# EAGLE library part 1-292227-2 (library te)
1.5mm AMP Mini CT Connectors
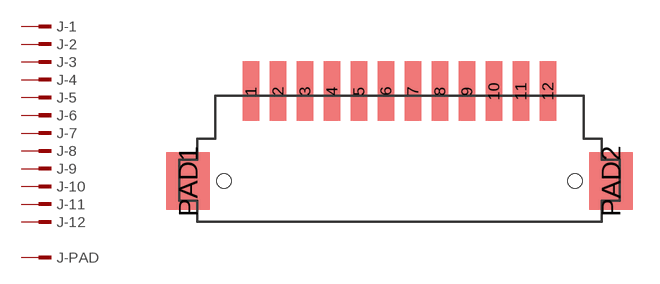
[diagram p4: symbol with the pads of 1-292227-2; footprint 1-292227-2]

Designator prefix J; gates -1=MPIN -2=MPIN -3=MPIN -4=MPIN -5=MPIN -6=MPIN -7=MPIN -8=MPIN -9=MPIN -10=MPIN -11=MPIN -12=MPIN -PAD=MPIN

## 1-292227-2  [1-292227-2]
1  -1:1  pas
2  -2:1  pas
3  -3:1  pas
4  -4:1  pas
5  -5:1  pas
6  -6:1  pas
7  -7:1  pas
8  -8:1  pas
9  -9:1  pas
10  -10:1  pas
11  -11:1  pas
12  -12:1  pas
PAD1  -PAD:1  pas
PAD2  -PAD:1  pas

## Footprint 1-292227-2 (pad centres in mm)
smd 0.9 x 3.3: 1 -8.25,5; 2 -6.75,5; 3 -5.25,5; 4 -3.75,5; 5 -2.25,5; 6 -0.75,5; 7 0.75,5; 8 2.25,5; 9 3.75,5; 10 5.25,5; 11 6.75,5; 12 8.25,5
smd 2.4 x 3.2: PAD1 -11.75,0; PAD2 11.75,0
hole 0.8 at 9.75,0
hole 0.8 at -9.75,0